# Altium footprint library PcbLib.PcbLib: 6 footprints
Each footprint in its own frame and in the unit in brackets; x right, y up, seen from the top. Pads: shape width x height; smd on the part's side, far side on the other; paste and mask are expansions set on the pad; w line width, h text height; cw(c..) or ccw(c..) is an arc to the next point about the centre after c.
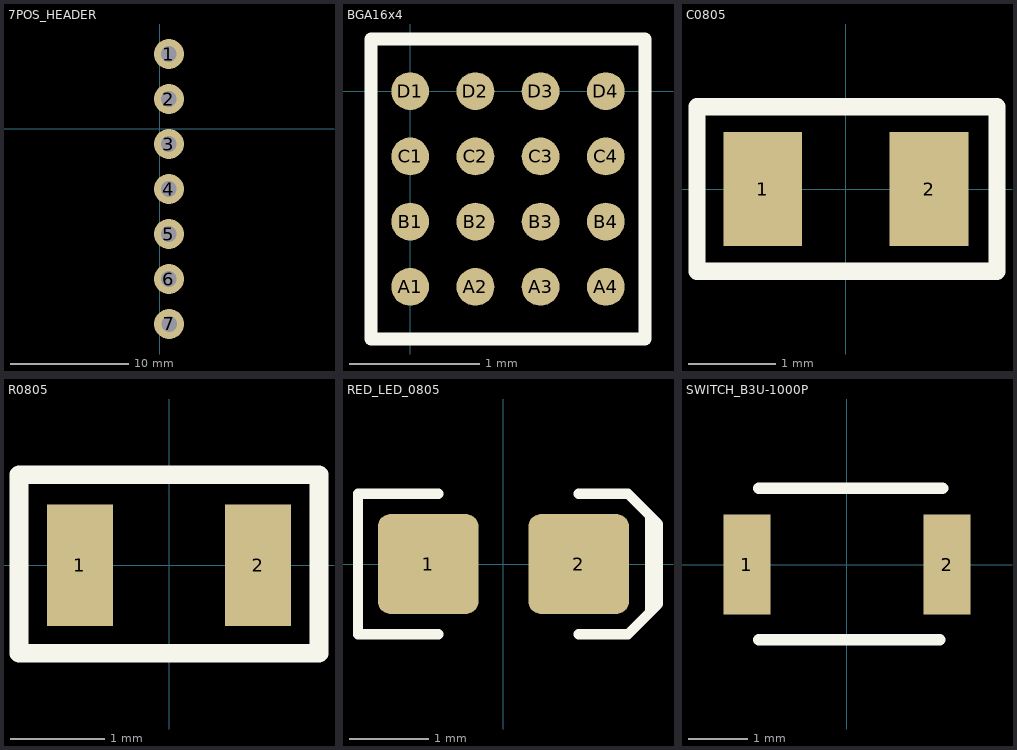
[diagram p0: the footprints below, top view; thin cyan lines are the x and y axes]

## 7POS_HEADER [mil]
pads (7):
  round 100 hole 52: 1(30.75,248.58) 2(30.75,98.58) 3(30.75,-51.42) 4(30.75,-201.42) 5(30.75,-351.42) 6(30.75,-501.42) 7(31.5,-651.38)

## BGA16x4 [mm]
pads (16):
  round 0.29 smd: A1(0,-1.5) A2(0.5,-1.5) A3(1,-1.5) A4(1.5,-1.5) B1(0,-1) B2(0.5,-1) B3(1,-1) B4(1.5,-1) C1(0,-0.5) C2(0.5,-0.5) C3(1,-0.5) C4(1.5,-0.5) D1(0,0) D2(0.5,0) D3(1,0) D4(1.5,0)
Top Overlay:
  lines w0.1: -0.3,-1.9 1.8,-1.9 1.8,0.4 -0.3,0.4 -0.3,-1.9

## C0805 [mm]
pads (2):
  rect 0.9x1.3 smd: 1(-0.95,0) 2(0.95,0)
Top Overlay:
  lines w0.2: -1.702,-0.94 1.727,-0.94 1.727,0.94 -1.702,0.94 -1.702,-0.94

## R0805 [mm]
pads (2):
  rect 0.7x1.3 smd: 1(-0.95,0) 2(0.95,0)
Top Overlay:
  lines w0.2: -1.6,-0.94 -1.6,0.965 1.6,0.965 1.6,-0.94 -1.6,-0.94

## RED_LED_0805 [mil]
pads (2):
  rrect25% 50x50 smd: 1(-37.5,0) 2(37.5,0)
Top Overlay:
  lines w5: -32.5,-35 -72.5,-35 -72.5,35 -32.5,35 ; 37.5,-35 62,-35 77,-20 77,20 62,35 37.5,35 ; 73,-24 73,24

## SWITCH_B3U-1000P [mm]
pads (2):
  rect 0.8x1.7 smd: 1(-1.7,0) 2(1.7,0)
Top Overlay:
  lines w0.2: -1.5,-1.275 1.575,-1.275 ; -1.5,1.3 1.625,1.3